# EAGLE library part ADG707BRUZ (library mmoretti)
Analog Multiplexers
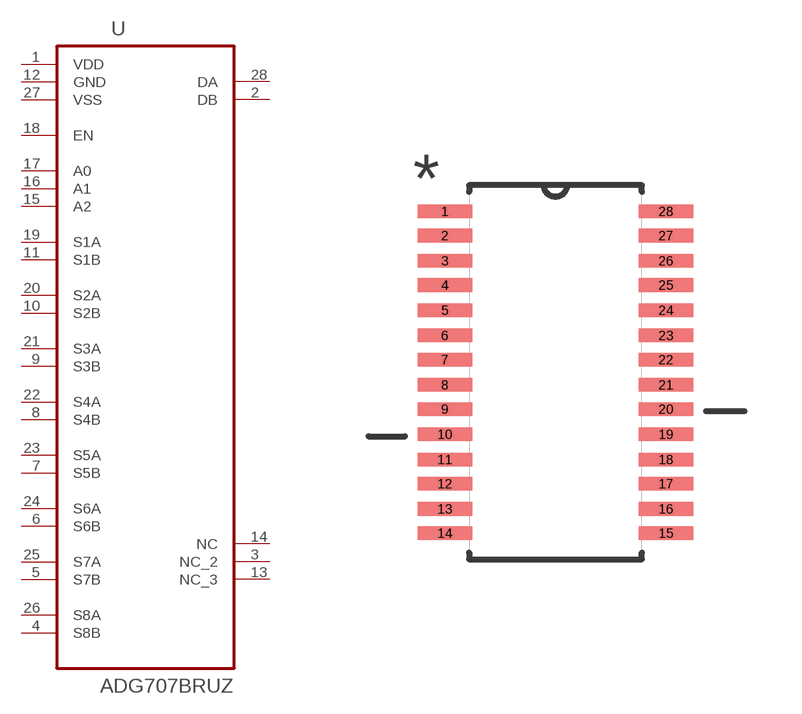
[diagram p7: symbol with the pads of SOP65P638X110-28N; footprint SOP65P638X110-28N]

Designator prefix U

## ADG707BRUZ (MPN: ADG707BRUZ; OC_FARNELL: 1079346; OC_NEWARK: 59K1499; PACKAGE: TSSOP-28; SUPPLIER: Analog Devices)  [SOP65P638X110-28N]
1  VDD  pwr
2  DB  out
3  NC_2  nc
4  S8B  in
5  S7B  in
6  S6B  in
7  S5B  in
8  S4B  in
9  S3B  in
10  S2B  in
11  S1B  in
12  GND  pas
13  NC_3  nc
14  NC  nc
15  A2  in
16  A1  in
17  A0  in
18  EN  in
19  S1A  in
20  S2A  in
21  S3A  in
22  S4A  in
23  S5A  in
24  S6A  in
25  S7A  in
26  S8A  in
27  VSS  pas
28  DA  out

## Footprint SOP65P638X110-28N (pad centres in mm)
smd 1.422 x 0.356: 1 -2.896,4.216; 2 -2.896,3.581; 3 -2.896,2.921; 4 -2.896,2.286; 5 -2.896,1.626; 6 -2.896,0.965; 7 -2.896,0.33; 8 -2.896,-0.33; 9 -2.896,-0.965; 10 -2.896,-1.626; 11 -2.896,-2.286; 12 -2.896,-2.921; 13 -2.896,-3.581; 14 -2.896,-4.216; 15 2.896,-4.216; 16 2.896,-3.581; 17 2.896,-2.921; 18 2.896,-2.286; 19 2.896,-1.626; 20 2.896,-0.965; 21 2.896,-0.33; 22 2.896,0.33; 23 2.896,0.965; 24 2.896,1.626; 25 2.896,2.286; 26 2.896,2.921; 27 2.896,3.581; 28 2.896,4.216